# EAGLE library part 2102A (library common)
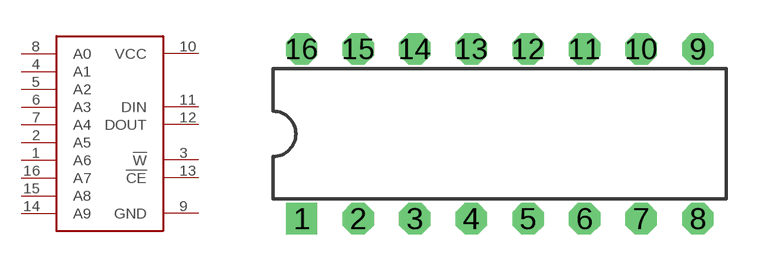
[diagram p56: symbol with the pads of DIL16; footprint DIL16]

Designator prefix -

## 2102A  [DIL16]
1  A6
2  A5
3  !W
4  A1
5  A2
6  A3
7  A4
8  A0
9  GND
10  VCC
11  DIN
12  DOUT
13  !CE
14  A9
15  A8
16  A7

## Footprint DIL16 (pad centres in mm)
Dual In Line Package
drill 0.9 square: 1 -8.89,-3.81
drill 0.9 octagon: 2 -6.35,-3.81; 3 -3.81,-3.81; 4 -1.27,-3.81; 5 1.27,-3.81; 6 3.81,-3.81; 7 6.35,-3.81; 8 8.89,-3.81; 9 8.89,3.81; 10 6.35,3.81; 11 3.81,3.81; 12 1.27,3.81; 13 -1.27,3.81; 14 -3.81,3.81; 15 -6.35,3.81; 16 -8.89,3.81